# EAGLE library part OOPS_SPACE (library HuskyRobotics2017-18)
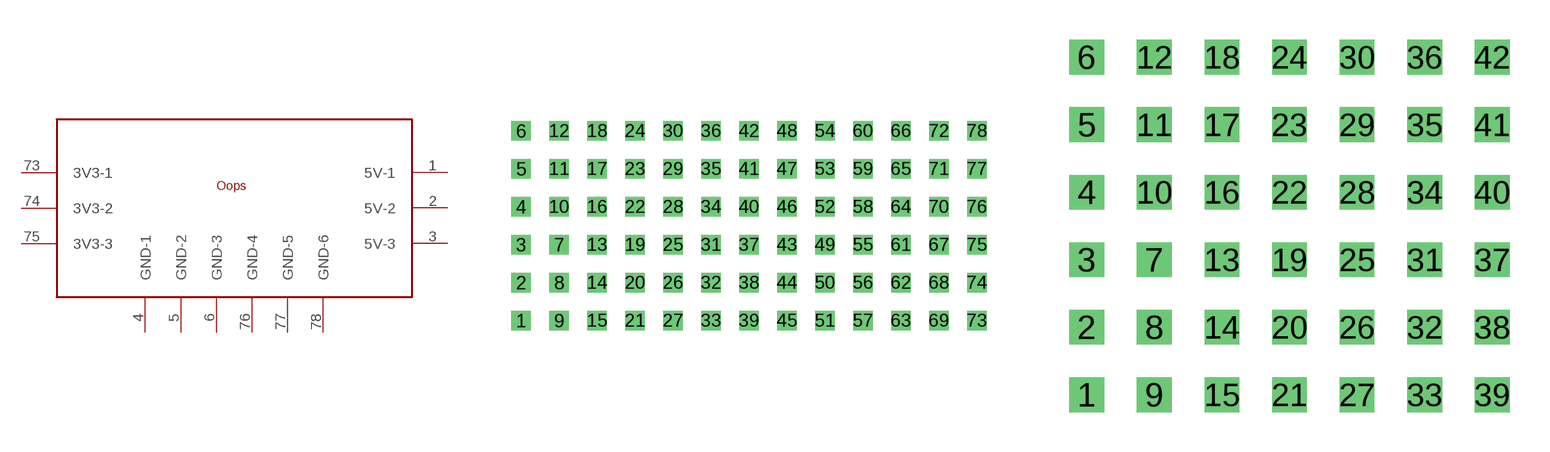
[diagram p7: symbol with the pads of OOPS_SPACE; footprints OOPS_SPACE, OOPS_SPACE_SMALL]

Designator prefix -

## OOPS_SPACELARGE  [OOPS_SPACE]
1  5V-1
2  5V-2
3  5V-3
4  GND-1
5  GND-2
6  GND-3
73  3V3-1
74  3V3-2
75  3V3-3
76  GND-4
77  GND-5
78  GND-6

## OOPS_SPACESMALL  [OOPS_SPACE_SMALL]
1  5V-1
2  5V-2
3  5V-3
4  GND-1
5  GND-2
6  GND-3
37  3V3-1
38  3V3-2
39  3V3-3
40  GND-4
41  GND-5
42  GND-6

## Footprint OOPS_SPACE (pad centres in mm)
drill 0.795 square: 1 -15.24,-6.35; 2 -15.24,-3.81; 3 -15.24,-1.27; 4 -15.24,1.27; 5 -15.24,3.81; 6 -15.24,6.35; 7 -12.7,-1.27; 8 -12.7,-3.81; 9 -12.7,-6.35; 10 -12.7,1.27; 11 -12.7,3.81; 12 -12.7,6.35; 13 -10.16,-1.27; 14 -10.16,-3.81; 15 -10.16,-6.35; 16 -10.16,1.27; 17 -10.16,3.81; 18 -10.16,6.35; 19 -7.62,-1.27; 20 -7.62,-3.81; 21 -7.62,-6.35; 22 -7.62,1.27; 23 -7.62,3.81; 24 -7.62,6.35; 25 -5.08,-1.27; 26 -5.08,-3.81; 27 -5.08,-6.35; 28 -5.08,1.27; 29 -5.08,3.81; 30 -5.08,6.35; 31 -2.54,-1.27; 32 -2.54,-3.81; 33 -2.54,-6.35; 34 -2.54,1.27; 35 -2.54,3.81; 36 -2.54,6.35; 37 0,-1.27; 38 0,-3.81; 39 0,-6.35; 40 0,1.27; 41 0,3.81; 42 0,6.35; 43 2.54,-1.27; 44 2.54,-3.81; 45 2.54,-6.35; 46 2.54,1.27; 47 2.54,3.81; 48 2.54,6.35; 49 5.08,-1.27; 50 5.08,-3.81; 51 5.08,-6.35; 52 5.08,1.27; 53 5.08,3.81; 54 5.08,6.35; 55 7.62,-1.27; 56 7.62,-3.81; 57 7.62,-6.35; 58 7.62,1.27; 59 7.62,3.81; 60 7.62,6.35; 61 10.16,-1.27; 62 10.16,-3.81; 63 10.16,-6.35; 64 10.16,1.27; 65 10.16,3.81; 66 10.16,6.35; 67 12.7,-1.27; 68 12.7,-3.81; 69 12.7,-6.35; 70 12.7,1.27; 71 12.7,3.81; 72 12.7,6.35; 73 15.24,-6.35; 74 15.24,-3.81; 75 15.24,-1.27; 76 15.24,1.27; 77 15.24,3.81; 78 15.24,6.35

## Footprint OOPS_SPACE_SMALL (pad centres in mm)
drill 0.795 square: 1 -7.62,-6.35; 2 -7.62,-3.81; 3 -7.62,-1.27; 4 -7.62,1.27; 5 -7.62,3.81; 6 -7.62,6.35; 7 -5.08,-1.27; 8 -5.08,-3.81; 9 -5.08,-6.35; 10 -5.08,1.27; 11 -5.08,3.81; 12 -5.08,6.35; 13 -2.54,-1.27; 14 -2.54,-3.81; 15 -2.54,-6.35; 16 -2.54,1.27; 17 -2.54,3.81; 18 -2.54,6.35; 19 0,-1.27; 20 0,-3.81; 21 0,-6.35; 22 0,1.27; 23 0,3.81; 24 0,6.35; 25 2.54,-1.27; 26 2.54,-3.81; 27 2.54,-6.35; 28 2.54,1.27; 29 2.54,3.81; 30 2.54,6.35; 31 5.08,-1.27; 32 5.08,-3.81; 33 5.08,-6.35; 34 5.08,1.27; 35 5.08,3.81; 36 5.08,6.35; 37 7.62,-1.27; 38 7.62,-3.81; 39 7.62,-6.35; 40 7.62,1.27; 41 7.62,3.81; 42 7.62,6.35